# EAGLE library part TPS5433XA (library e-Lib-IC-Power)
TPS5433xA 4.5-V to 28-V Input, 3-A Output, Synchronous Step-Down DC-DC Converter The TPS5433xA family of devices are synchronous converters with an input-voltage range of 4.5 V to 28 V. These devices include This device has an integrated low-side switching FET that eliminates the need for an external diode which reduces component count. Efficiency is maximized through the integrated 128- mΩ and 84-mΩ MOSFETs, low IQ and pulse skipping at light loads. Using the enable pin, the shutdown supply current is reduced to 2 μA. This step-down (buck) converter provides accurate regulation for a variety of loads with a well-regulated voltage reference that is 1.5% over temperature. Devices: TPS54335A, TPS54335-1A, TPS54336A Datasheet: TPS5433xA <https://datasheet.lcsc.com/lcsc/1912272107_Texas-Instruments-TPS54335ADRCR_C473400.pdf>
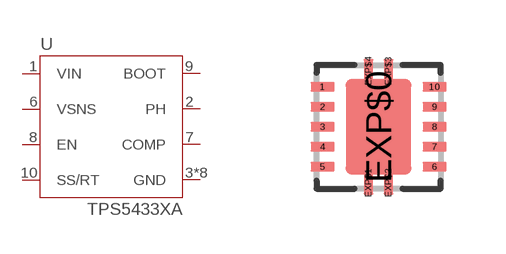
[diagram p2: symbol with the pads of VSON-10; footprint VSON-10]

Designator prefix U

## TPS5433XA  [VSON-10]
1  VIN  pwr
2  PH  out
3  GND  pwr
4  GND  pwr
5  GND  pwr
6  VSNS  in
7  COMP  out
8  EN  in
9  BOOT  out
10  SS/RT  out
EXP$0  GND  pwr
EXP$1  GND  pwr
EXP$2  GND  pwr
EXP$3  GND  pwr
EXP$4  GND  pwr

## Footprint VSON-10 (pad centres in mm)
smd 0.6 x 0.24: 1 -1.4,1; 2 -1.4,0.5; 3 -1.4,0; 4 -1.4,-0.5; 5 -1.4,-1; 6 1.4,-1; 7 1.4,-0.5; 8 1.4,0; 9 1.4,0.5; 10 1.4,1
smd 1.65 x 2.4: EXP$0 0,0
smd 0.24 x 0.6: EXP$1 -0.25,-1.4; EXP$2 0.25,-1.4; EXP$3 0.25,1.4; EXP$4 -0.25,1.4